# Altium schematic symbol library Relay.SchLib: 19 symbols
Pins are listed as number, name and electrical type; pins without a type are passive.

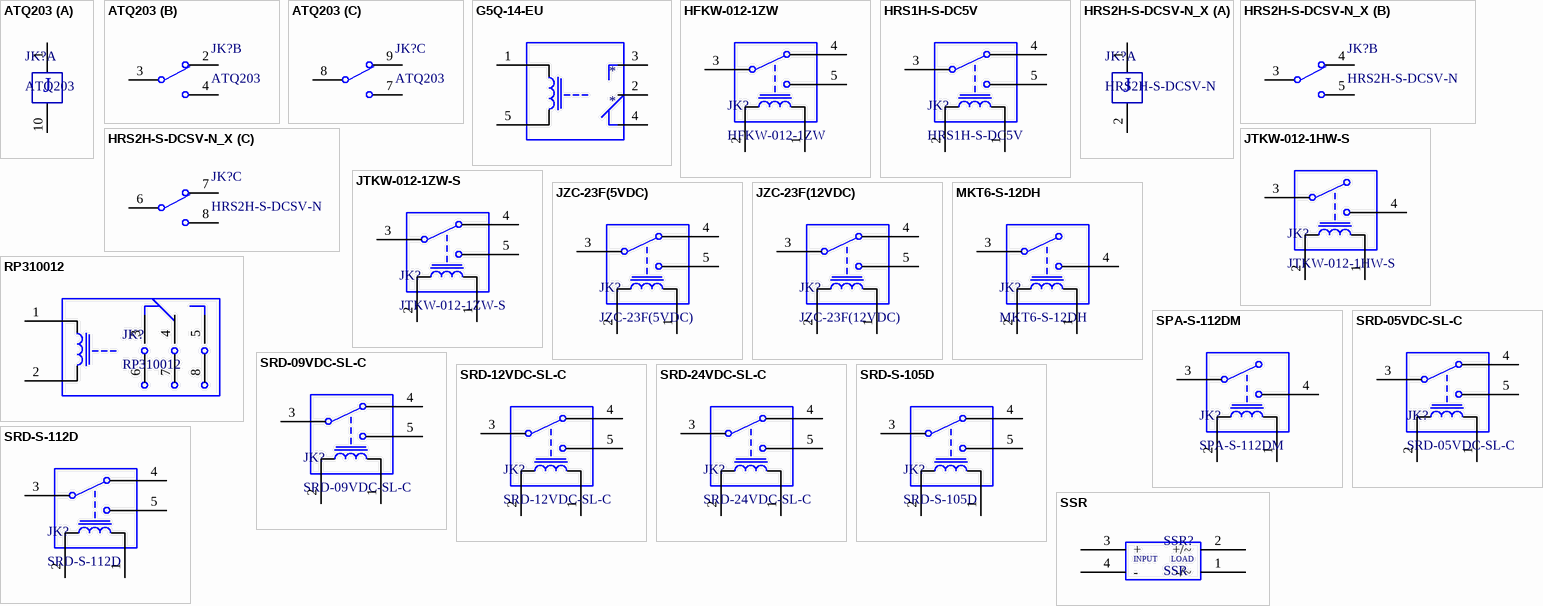
[diagram p0: symbols ATQ203 to SSR]

## ATQ203
designator JK?
12V dual relay; BOM名称: 12V双路继电器; 版权归属: 源创客; 学习资源: www.ooocke.com
footprint ATQ203 (双刀双投)
part A pins: 1, 10
part B pins: 2, 3, 4
part C pins: 7, 8, 9
part A text: J

## G5Q-14-EU
designator *
footprint G5Q-14-EU
pins: 1 A1, 2 12, 3 12, 4 12, 5 A2

## HFKW-012-1ZW
designator JK?
12V single-channel dual-control relay; BOM名称: 12V继电器; 版权归属: 源创客; 学习资源: www.ooocke.com
footprint 012-1ZW_W (单刀双投)
pins: 1 Coil 1, 2 Coil 2, 3, 4, 5

## HRS1H-S-DC5V
designator JK?
5V single-channel dual-control relay; BOM名称: 5V继电器; 版权归属: 源创客; 学习资源: www.ooocke.com
footprint HRS1H (单刀双投)
pins: 1 Coil 1, 2 Coil 2, 3, 4, 5

## HRS2H-S-DCSV-N_X
designator JK?, comment HRS2H-S-DCSV-N
5V dual-channel dual-control relay; BOM名称: 5V双路继电器; 版权归属: 源创客; 学习资源: www.ooocke.com
footprint HRS2H (双刀双投)
part A pins: 1, 2
part B pins: 3, 4, 5
part C pins: 6, 7, 8
part A text: J

## JTKW-012-1HW-S
designator JK?
12V single normally open relay; BOM名称: 12V继电器; 版权归属: 源创客; 学习资源: www.ooocke.com
footprint 012-1HW_BK (单刀单投/常开)
pins: 1 Coil 1, 2 Coil 2, 3, 4

## JTKW-012-1ZW-S
designator JK?
12V single-channel dual-control relay; BOM名称: 12V继电器; 版权归属: 源创客; 学习资源: www.ooocke.com
footprint 012-1ZW_BK (单刀双投)
pins: 1 Coil 1, 2 Coil 2, 3, 4, 5

## JZC-23F(5VDC)
designator JK?
5V single-channel dual-control relay; BOM名称: 5V继电器; 版权归属: 源创客; 学习资源: www.ooocke.com
footprint JZC-23F(4123) (双控继电器)
pins: 1 Coil 1, 2 Coil 2, 3, 4, 5

## JZC-23F(12VDC)
designator JK?
12V single-channel dual-control relay; BOM名称: 12V继电器; 版权归属: 源创客; 学习资源: www.ooocke.com
footprint JZC-23F(4123) (双控继电器)
pins: 1 Coil 1, 2 Coil 2, 3, 4, 5

## MKT6-S-12DH
designator JK?
12V single normally open relay; BOM名称: 12V继电器; 版权归属: 源创客; 学习资源: www.ooocke.com
footprint MKT6-S-12DH (单刀单投/常开)
pins: 1 Coil 1, 2 Coil 2, 3, 4

## RP310012
designator JK?
12V-16A single-channel dual-control relay
footprint RP310012_W (Footprint not found)
footprint RP310012_BK (Footprint not found)
pins: 1 A1, 2 A2, 3 12, 4 12, 5 12, 6 12, 7 11, 8 14

## SPA-S-112DM
designator JK?
12V single normally open relay; BOM名称: 12V继电器; 版权归属: 源创客; 学习资源: www.ooocke.com
footprint SPA-S-112DM (单刀单投/常开)
pins: 1 Coil 1, 2 Coil 2, 3, 4

## SRD-05VDC-SL-C
designator JK?
5V single-channel dual-control relay; BOM名称: 5V继电器; 版权归属: 源创客; 学习资源: www.ooocke.com
footprint SRD-C_B (单刀双投)
pins: 1 Coil 1, 2 Coil 2, 3, 4, 5

## SRD-09VDC-SL-C
designator JK?
9V single-channel dual-control relay; BOM名称: 9V继电器; 版权归属: 源创客; 学习资源: www.ooocke.com
footprint SRD-C_B (单刀双投)
pins: 1 Coil 1, 2 Coil 2, 3, 4, 5

## SRD-12VDC-SL-C
designator JK?
12V single-channel dual-control relay; BOM名称: 12V继电器; 版权归属: 源创客; 学习资源: www.ooocke.com
footprint SRD-C_B (单刀双投)
pins: 1 Coil 1, 2 Coil 2, 3, 4, 5

## SRD-24VDC-SL-C
designator JK?
24V single-channel dual-control relay; BOM名称: 24V继电器; 版权归属: 源创客; 学习资源: www.ooocke.com
footprint SRD-C_B (单刀双投)
pins: 1 Coil 1, 2 Coil 2, 3, 4, 5

## SRD-S-105D
designator JK?
5V single-channel dual-control relay; BOM名称: 5V继电器; 版权归属: 源创客; 学习资源: www.ooocke.com
footprint SRD-C_BK (单刀双投)
pins: 1 Coil 1, 2 Coil 2, 3, 4, 5

## SRD-S-112D
designator JK?
12V single-channel dual-control relay; BOM名称: 12V继电器; 版权归属: 源创客; 学习资源: www.ooocke.com
footprint SRD-C_BK (单刀双投)
pins: 1 Coil 1, 2 Coil 2, 3, 4, 5

## SSR
designator SSR?
HHG1D-1
footprint SSR (HHG1D-1)
pins: 1 -/~, 2 +/~, 3 +, 4 -
text: INPUT; LOAD